# Altium footprint library PCB - CONNECTOR - SAMTEC - SAMTEC LSHM-120-02.5-L-DV-A-S.PcbLib: 1 footprints
Each footprint in its own frame and in the unit in brackets; x right, y up, seen from the top. Pads: shape width x height; smd on the part's side, far side on the other; paste and mask are expansions set on the pad; w line width, h text height; cw(c..) or ccw(c..) is an arc to the next point about the centre after c.
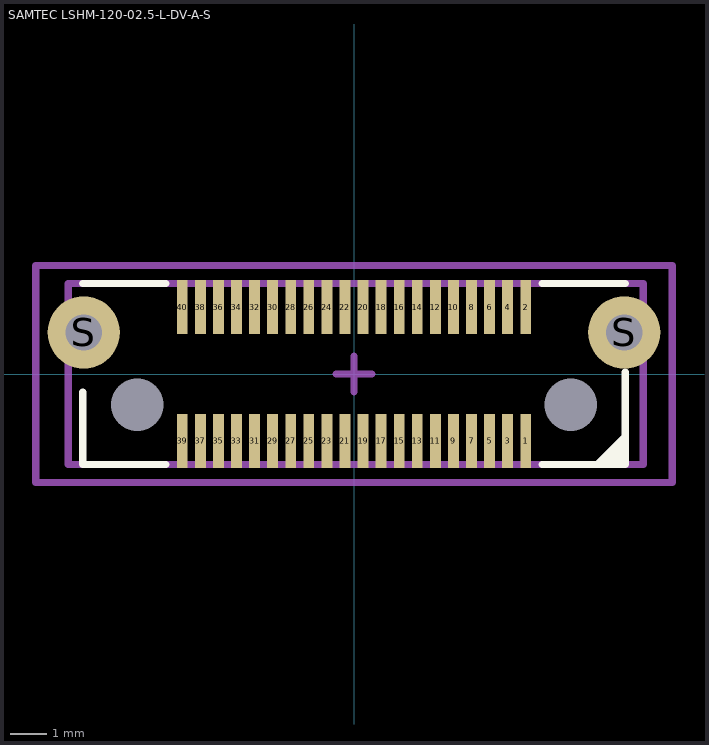
[diagram p0: the footprint, top view; thin cyan lines are the x and y axes]

## SAMTEC LSHM-120-02.5-L-DV-A-S [mm] "0.50 mm Razor Beam™ Shielded High-Speed Hermaphroditic Strip"
height 3.95
pads (44):
  rect 0.3x1.5 smd: 1(4.75,-1.85) 2(4.75,1.85) 3(4.25,-1.85) 4(4.25,1.85) 5(3.75,-1.85) 6(3.75,1.85) 7(3.25,-1.85) 8(3.25,1.85) 9(2.75,-1.85) 10(2.75,1.85) 11(2.25,-1.85) 12(2.25,1.85) 13(1.75,-1.85) 14(1.75,1.85) 15(1.25,-1.85) 16(1.25,1.85) 17(0.75,-1.85) 18(0.75,1.85) 19(0.25,-1.85) 20(0.25,1.85) 21(-0.25,-1.85) 22(-0.25,1.85) 23(-0.75,-1.85) 24(-0.75,1.85) 25(-1.25,-1.85) 26(-1.25,1.85) 27(-1.75,-1.85) 28(-1.75,1.85) 29(-2.25,-1.85) 30(-2.25,1.85) 31(-2.75,-1.85) 32(-2.75,1.85) 33(-3.25,-1.85) 34(-3.25,1.85) 35(-3.75,-1.85) 36(-3.75,1.85) 37(-4.25,-1.85) 38(-4.25,1.85) 39(-4.75,-1.85) 40(-4.75,1.85)
  round 0 hole 1.45 mask+0: M(-6,-0.85) M(6,-0.85)
  round 2 hole 1 paste+0.05: S(-7.475,1.15) S(7.475,1.15)
Top Overlay:
  region: 7.5,-2.5 7.5,-1.6 6.6,-2.5
  lines w0.2: -7.5,-0.5 -7.5,-2.5 -5.2,-2.5 ; -7.5,2.5 -5.2,2.5 ; 5.2,-2.5 7.5,-2.5 7.5,0.05 ; 5.2,2.5 7.5,2.5
Top Assembly:
  lines w0.2: -0.5,0 0.5,0 ; 0,-0.5 0,0.5 ; -7.9,-2.5 8,-2.5 8,2.5 -7.9,2.5 -7.9,-2.5
Top Courtyard (Mech15):
  lines w0.2: -8.8,-3 -8.8,3 8.8,3 8.8,-3 -8.8,-3
3D body "Samtec - LSHM-120-02.5-L-DV-A-S.step": height 4.11, standoff -1.65, extent -7.901,-2.475 7.901,2.555